# Altium schematic symbol library 3296W.SchLib: 1 symbol
Pins are listed as number, name and electrical type; pins without a type are passive.

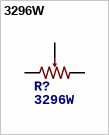
[diagram p0: symbol 3296W]

## 3296W
designator R?
footprint 3296W
pins: 1, 2, 3